# Altium footprint library LightSaber.PcbLib: 2 footprints
Each footprint in its own frame and in the unit in brackets; x right, y up, seen from the top. Pads: shape width x height; smd on the part's side, far side on the other; paste and mask are expansions set on the pad; w line width, h text height; cw(c..) or ccw(c..) is an arc to the next point about the centre after c.
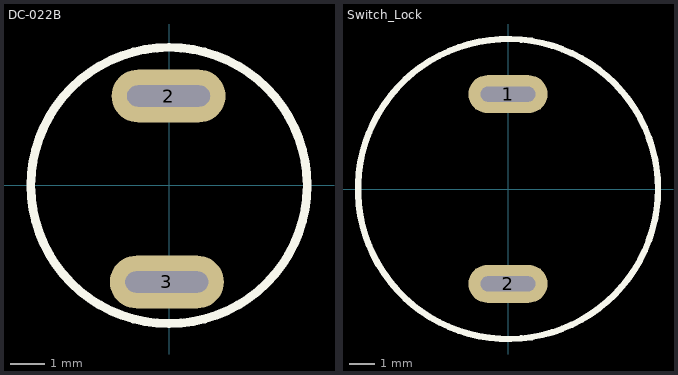
[diagram p0: the footprints below, top view; thin cyan lines are the x and y axes]

## DC-022B [mil]
pads (2):
  rrect100% 130x60 hole 94.49 slot 24 at 90 deg: 2(-0.5,102) 3(-2.5,-110)
Top Overlay:
  circle w10: c0,0 r157.48

## Switch_Lock [mil]
pads (2):
  oval 125x60 hole 86.61 slot 23.62 at 90 deg: 1(0,149.6) 2(0,-149.6)
Top Overlay:
  circle w10: c0,0 r236.59